# EAGLE library part RJ45-2PORT (library MRDT-2014-All)
RJSAE-5080-02 RJ45 Connector 1 on 1 port
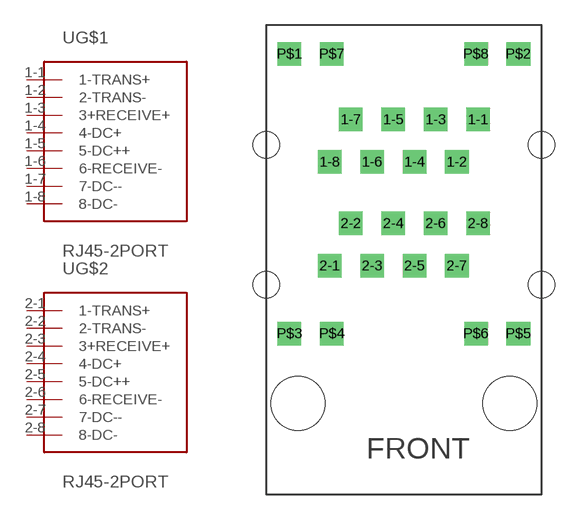
[diagram p3: symbol with the pads of RJ45-CAT5E-2PACK; footprint RJ45-CAT5E-2PACK]

Designator prefix -; gates G$1=RJ45 G$2=RJ45

## RJ45-2PORT  [RJ45-CAT5E-2PACK]
1-1  G$1:1-TRANS+
1-2  G$1:2-TRANS-
1-3  G$1:3+RECEIVE+
1-4  G$1:4-DC+
1-5  G$1:5-DC++
1-6  G$1:6-RECEIVE-
1-7  G$1:7-DC--
1-8  G$1:8-DC-
2-1  G$2:1-TRANS+
2-2  G$2:2-TRANS-
2-3  G$2:3+RECEIVE+
2-4  G$2:4-DC+
2-5  G$2:5-DC++
2-6  G$2:6-RECEIVE-
2-7  G$2:7-DC--
2-8  G$2:8-DC-

## Footprint RJ45-CAT5E-2PACK (pad centres in mm)
drill 0.9 square: 1-1 12.7,-5.664; 1-2 11.43,-8.204; 1-3 10.16,-5.664; 1-4 8.89,-8.204; 1-5 7.62,-5.664; 1-6 6.35,-8.204; 1-7 5.08,-5.664; 1-8 3.81,-8.204; 2-1 3.81,-14.427; 2-2 5.08,-11.887; 2-3 6.35,-14.427; 2-4 7.62,-11.887; 2-5 8.89,-14.427; 2-6 10.16,-11.887; 2-7 11.43,-14.427; 2-8 12.7,-11.887; P$1 1.397,-1.727; P$2 15.113,-1.727; P$3 1.397,-18.491; P$4 3.937,-18.491; P$5 15.113,-18.491; P$6 12.573,-18.491; P$7 3.937,-1.727; P$8 12.573,-1.727
hole 3.251 at 1.905,-22.682
hole 3.251 at 14.605,-22.682
hole 1.6 at 0,-15.57
hole 1.6 at 16.51,-15.57
hole 1.6 at 0,-7.188
hole 1.6 at 16.51,-7.188